# EAGLE library part NUF2042XV6T1G (library Filters)
FILTER RC(PI) 22 OHM/42PF SMD Manufacturer's datasheet <https://www.onsemi.com/pub/Collateral/NUF2030XV6-D.PDF>
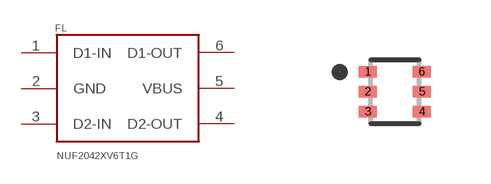
[diagram p13: symbol with the pads of NUF2042XV6T1G; footprint NUF2042XV6T1G]

Designator prefix FL

## NUF2042XV6T1G (CREATED_BY: PCBLayout.com; DIGIKEY_PN: NUF2042XV6T1GOSDKR-ND; MANUFACTURER: ON Semiconductor; MPN: NUF2042XV6T1G; PACKAGE: SOT-563)  [NUF2042XV6T1G]
1  D1-IN  in
2  GND  pwr
3  D2-IN  in
4  D2-OUT  out
5  VBUS  pwr
6  D1-OUT  out

## Footprint NUF2042XV6T1G (pad centres in mm)
smd 0.45 x 0.3: 1 -0.675,0.5; 2 -0.675,0; 3 -0.675,-0.5; 4 0.675,-0.5; 5 0.675,0; 6 0.675,0.5